# Altium schematic symbol library wireless_lib2.SchLib: 1 symbol
Pins are listed as number, name and electrical type; pins without a type are passive.

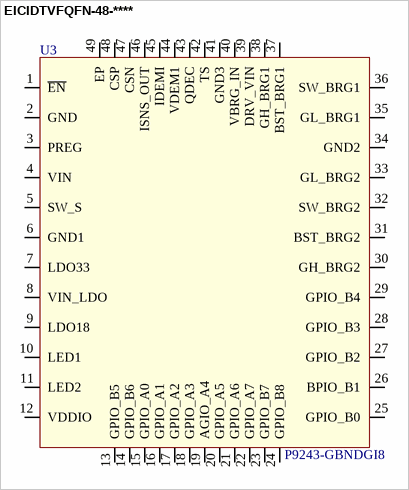
[diagram p0: symbol EICIDTVFQFN-48-****]

## EICIDTVFQFN-48-****
designator U3, comment value P9243-GBNDGI8  (hidden comment: IC WIRELESS TRANSMITTER 48-VFQFPN)
Manufacturer: Renesas / IDT; Internal Part Number: EICIDTVFQFN-48-****; Vendor Name: custom; 3rd Auxiliary Field: RoHS Compliant; Component Height (mm): 0.90mm; Temp Co: - 40 C~+ 85 C; 2nd Auxiliary Field: 10 mA; 1st Auxiliary Field: 5 V to 19 V; Part Type: IC WIRELESS TRANSMITTER 48-VFQFPN; Vendor Part Number: P9243-GBNDGI8; Manufacturer Part Number: P9243-GBNDGI8; 4th Auxiliary Field: *
footprint QFN40P600X600X80_HS-49N (QFN, 48-Leads, Body 6.00x6.00mm, Pitch 0.40mm, Thermal Pad 4.20x4.20mm, IPC Medium Density)
pins: 1 ~{EN}, 2 GND, 3 PREG, 4 VIN, 5 SW_S, 6 GND1, 7 LDO33, 8 VIN_LDO, 9 LDO18, 10 LED1, 11 LED2, 12 VDDIO, 13 GPIO_B5, 14 GPIO_B6, 15 GPIO_A0, 16 GPIO_A1, 17 GPIO_A2, 18 GPIO_A3, 19 AGIO_A4, 20 GPIO_A5, 21 GPIO_A6, 22 GPIO_A7, 23 GPIO_B7, 24 GPIO_B8, 25 GPIO_B0, 26 BPIO_B1, 27 GPIO_B2, 28 GPIO_B3, 29 GPIO_B4, 30 GH_BRG2, 31 BST_BRG2, 32 SW_BRG2, 33 GL_BRG2, 34 GND2, 35 GL_BRG1, 36 SW_BRG1, 37 BST_BRG1, 38 GH_BRG1, 39 DRV_VIN, 40 VBRG_IN, 41 GND3, 42 TS, 43 QDEC, 44 VDEM1, 45 IDEMI, 46 ISNS_OUT, 47 CSN, 48 CSP, 49 EP